# Altium footprint library RCWE251210L0JTEA.PcbLib: 3 footprints
Each footprint in its own frame and in the unit in brackets; x right, y up, seen from the top. Pads: shape width x height; smd on the part's side, far side on the other; paste and mask are expansions set on the pad; w line width, h text height; cw(c..) or ccw(c..) is an arc to the next point about the centre after c.
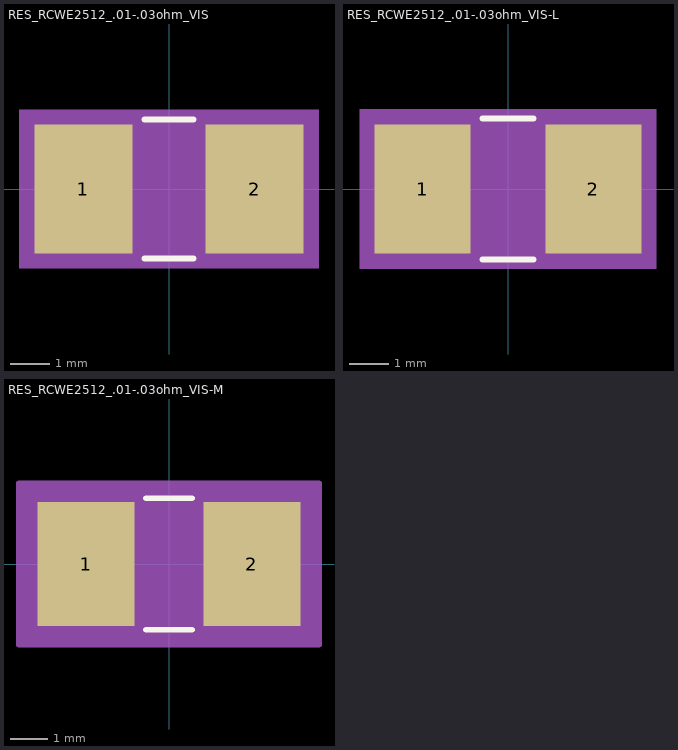
[diagram p0: the footprints below, top view; thin cyan lines are the x and y axes]

## RES_RCWE2512_.01-.03ohm_VIS [mil]
pads (2):
  rect 99x130 smd paste+0 mask+0: 1(-86.5,0) 2(86.5,0)
Top Overlay:
  lines w6: -24.89,-70 24.89,-70 ; -24.89,70 24.89,70
Mechanical 5:
  region: 151,-80 -151,-80 -151,80 151,80
Mechanical 13:
  lines w1: -128,-65 -128,65 ; -128,-65 -37,-65 -37,65 -128,65 ; -128,-65 128,-65 ; -128,-65 -128,65 ; -128,65 128,65 ; 128,-65 37,-65 37,65 128,65 ; 128,-65 128,65 ; 128,-65 128,65
Mechanical 15:
  region: 146,-75 -146,-75 -146,75 146,75
  lines w6: -146,-75 -146,75 146,75 146,-75 -146,-75
3D body: height 10, standoff 0, extent 0,0 10,10

## RES_RCWE2512_.01-.03ohm_VIS-L [mil]
pads (2):
  rect 95x128 smd paste+0 mask+0: 1(-84.5,0) 2(84.5,0)
Top Overlay:
  lines w6: -25.35,-70 25.35,-70 ; -25.35,70 25.35,70
Mechanical 5:
  region: 147,-79 -147,-79 -147,79 147,79
Mechanical 13:
  lines w1: -128,-65 -128,65 ; -128,-65 -37,-65 -37,65 -128,65 ; -128,-65 128,-65 ; -128,-65 -128,65 ; -128,65 128,65 ; 128,-65 37,-65 37,65 128,65 ; 128,-65 128,65 ; 128,-65 128,65
Mechanical 15:
  region: 136,-68 -136,-68 -136,68 136,68
  lines w6: -136,-68 -136,68 136,68 136,-68 -136,-68
3D body: height 10, standoff 0, extent 0,0 10,10

## RES_RCWE2512_.01-.03ohm_VIS-M [mil]
pads (2):
  rect 103x132 smd paste+0 mask+0: 1(-88.5,0) 2(88.5,0)
Top Overlay:
  lines w6: -24.53,-70 24.53,-70 ; -24.53,70 24.53,70
Mechanical 5:
  region: 155,-81 -155,-81 -155,81 155,81
Mechanical 13:
  lines w1: -128,-65 -128,65 ; -128,-65 -37,-65 -37,65 -128,65 ; -128,-65 128,-65 ; -128,-65 -128,65 ; -128,65 128,65 ; 128,-65 37,-65 37,65 128,65 ; 128,-65 128,65 ; 128,-65 128,65
Mechanical 15:
  region: 160,-86 -160,-86 -160,86 160,86
  lines w6: -160,-86 -160,86 160,86 160,-86 -160,-86
3D body: height 10, standoff 0, extent 0,0 10,10